# EAGLE library part RECT_2X6A (library dsantoro-conn)
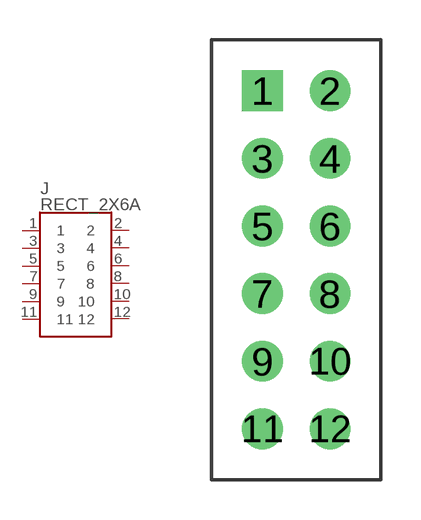
[diagram p5: symbol with the pads of RECT_2X6_0.1; footprint RECT_2X6_0.1]

Designator prefix J

## RECT_2X6A0.1_SPACING  [RECT_2X6_0.1]
1  1
2  2
3  3
4  4
5  5
6  6
7  7
8  8
9  9
10  10
11  11
12  12

## Footprint RECT_2X6_0.1 (pad centres in mm)
drill 1.02 square: 1 0,0
drill 1.02: 2 2.54,0; 3 0,-2.54; 4 2.54,-2.54; 5 0,-5.08; 6 2.54,-5.08; 7 0,-7.62; 8 2.54,-7.62; 9 0,-10.16; 10 2.54,-10.16; 11 0,-12.7; 12 2.54,-12.7